# Altium integrated library Analog Devices Data Converters Digital-to-Analog Converters.IntLib: 2231 symbols (part 160 of 181)
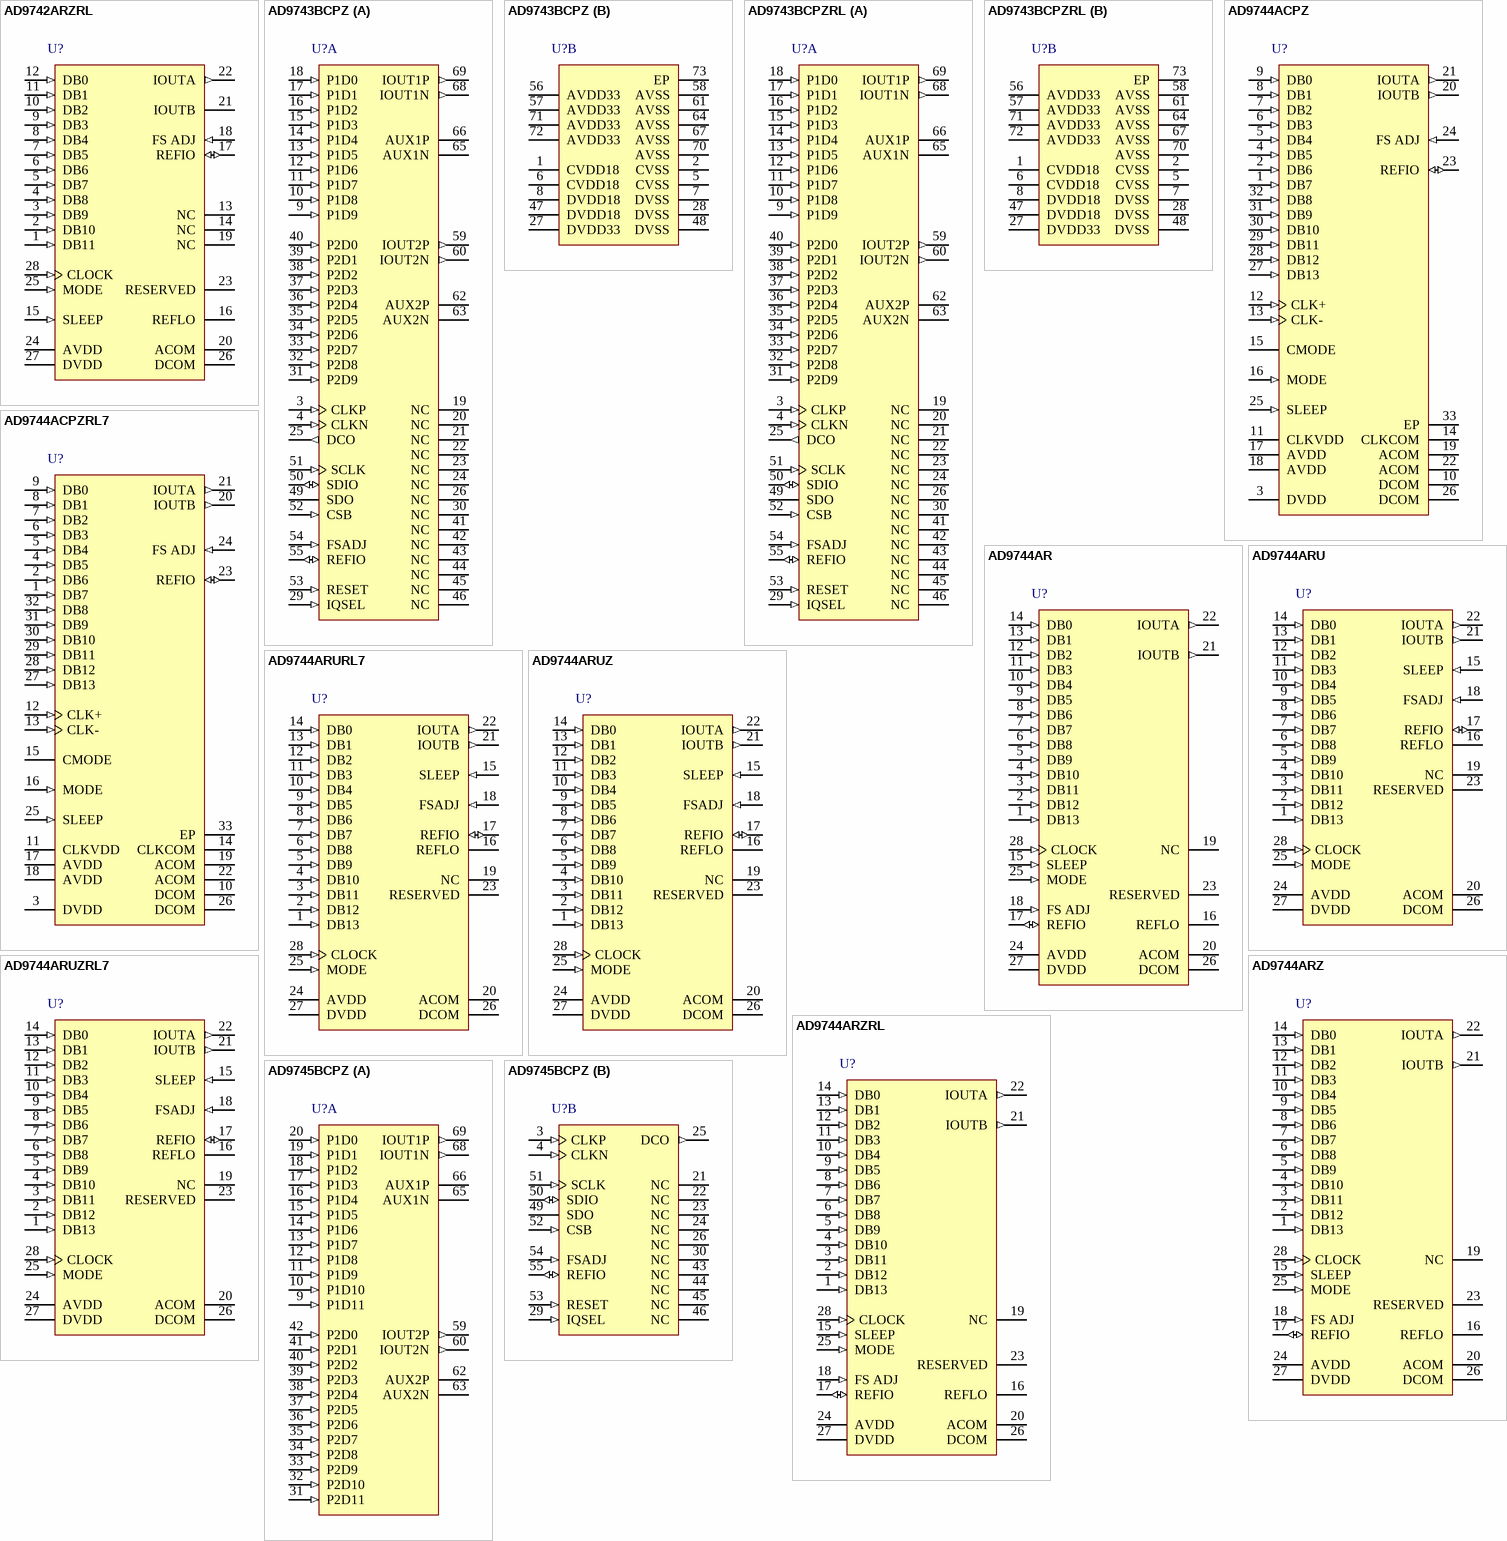
[diagram p273: symbols AD9742ARZRL to AD9745BCPZ]

## AD9744ARUZ
designator U?
Single 14-Bit TxDAC, 210 Msps, -40 to +85 degC, RU-28, Pb-Free, Tube; Generic Part Number: AD9744; Manufacturer: Analog Devices; PartNumber: AD9744ARUZ; # DAC Outputs: 1; Max V+: 3.6V; Op Pwr Diss: 145mW; Resolution (Bits): 14; Settling Time: 11ns; Single Supply: Yes; DatasheetVersion: Rev.B; PackageVersion: 2005; PackageReference: RU-28; PackageDescription: 28-Lead Thin Shrink Small Outline Package [TSSOP]; Supplier 1: Digi-Key; Supplier Part Number 1: AD9744ARUZ-ND; Supplier 2: Farnell; Supplier Part Number 2: 2305701; Supplier 3: Newark; Supplier Part Number 3: 59K7349; Supplier 4: Mouser; Supplier Part Number 4: 584-AD9744ARUZ; Packing: Tube; RoHS: Y; Mounting Technology: Surface Mount; Code_JEDEC: MO-153-AE; ComponentLink1Description: Manufacturer URL; ComponentLink1URL: http://www.analog.com/en/index.html; ComponentLink2Description: Datasheet; ComponentLink2URL: http://www.analog.com/static/imported-files/data_sheets/AD9744.pdf; ComponentLink3Description: Package Specification; ComponentLink3URL: http://www.analog.com/static/imported-files/packages/249854663RU_28.pdf; ComponentLink4Description: Product URL; ComponentLink4URL: http://www.analog.com/en/digital-to-analog-converters/da-converters/ad9744/products/product.html
footprint RU-28_N (TSOP, 28-Leads, Body 9.7x4.4mm, Pitch 0.65mm, IPC Medium Density)
footprint RU-28_L (TSOP, 28-Leads, Body 9.7x4.4mm, Pitch 0.65mm, IPC High Density)
footprint RU-28_M (TSOP, 28-Leads, Body 9.7x4.4mm, Pitch 0.65mm, IPC Low Density)
pins: 1 DB13 (in) "Most Significant Data Bit (MSB).", 2 DB12 (in) "Data Bit 12", 3 DB11 (in) "Data Bit 11", 4 DB10 (in) "Data Bit 10", 5 DB9 (in) "Data Bit 9", 6 DB8 (in) "Data Bit 8", 7 DB7 (in) "Data Bit 7", 8 DB6 (in) "Data Bit 6", 9 DB5 (in) "Data Bit 5", 10 DB4 (in) "Data Bit 4", 11 DB3 (in) "Data Bit 3", 12 DB2 (in) "Data Bit 2", 13 DB1 (in) "Data Bit 1", 14 DB0 (in) "Least Significant Data Bit (LSB).", 15 SLEEP (in) "Power-Down Control Input. Active high. Contains active pull-down circuit; it may be left unterminated if not used.", 16 REFLO "Reference Ground when Internal 1.2 V Reference Used. Connect to ACOM for both internal and external reference operation modes.", 17 REFIO (io) "Reference Input/Output. Serves as reference input when using external reference. Serves as 1.2 V reference output when using internal reference. Requires 0.1 uF capacitor to ACOM when using internal reference.", 18 FSADJ (in) "Full-Scale Current Output Adjust.", 19 NC "No Internal Connection.", 20 ACOM (power) "Analog Common.", 21 IOUTB (out) "Complementary DAC Current Output. Full-scale current when all data bits are 0s.", 22 IOUTA (out) "DAC Current Output. Full-scale current when all data bits are 1s.", 23 RESERVED "Reserved. Do not connect to common or supply.", 24 AVDD (power) "Analog Supply Voltage (3.3 V).", 25 MODE (in) "Selects Input Data Format. Connect to DCOM for straight binary, DVDD for twos complement.", 26 DCOM (power) "Digital Common.", 27 DVDD (power) "Digital Supply Voltage (3.3 V).", 28 CLOCK (in) "Clock Input. Data latched on positive edge of clock."

## AD9744ARUZRL7
designator U?
Single 14-Bit TxDAC, 210 Msps, -40 to +85 degC, RU-28, Pb-Free, Reel; Generic Part Number: AD9744; Manufacturer: Analog Devices; PartNumber: AD9744ARUZRL7; # DAC Outputs: 1; Max V+: 3.6V; Op Pwr Diss: 145mW; Resolution (Bits): 14; Settling Time: 11ns; Single Supply: Yes; DatasheetVersion: Rev.B; PackageVersion: 2005; PackageReference: RU-28; PackageDescription: 28-Lead Thin Shrink Small Outline Package [TSSOP]; Supplier 1: Digi-Key; Supplier Part Number 1: AD9744ARUZRL7TR-ND; Supplier 2: Digi-Key; Supplier Part Number 2: AD9744ARUZRL7CT-ND; Supplier 3: Digi-Key; Supplier Part Number 3: AD9744ARUZRL7DKR-ND; Supplier 4: Newark; Supplier Part Number 4: 59K7350; Supplier 5: Mouser; Supplier Part Number 5: 584-AD9744ARUZR7; Packing: Reel; RoHS: Y; Mounting Technology: Surface Mount; Code_JEDEC: MO-153-AE; ComponentLink1Description: Manufacturer URL; ComponentLink1URL: http://www.analog.com/en/index.html; ComponentLink2Description: Datasheet; ComponentLink2URL: http://www.analog.com/static/imported-files/data_sheets/AD9744.pdf; ComponentLink3Description: Package Specification; ComponentLink3URL: http://www.analog.com/static/imported-files/packages/249854663RU_28.pdf; ComponentLink4Description: Product URL; ComponentLink4URL: http://www.analog.com/en/digital-to-analog-converters/da-converters/ad9744/products/product.html
footprint RU-28_N (TSOP, 28-Leads, Body 9.7x4.4mm, Pitch 0.65mm, IPC Medium Density)
footprint RU-28_L (TSOP, 28-Leads, Body 9.7x4.4mm, Pitch 0.65mm, IPC High Density)
footprint RU-28_M (TSOP, 28-Leads, Body 9.7x4.4mm, Pitch 0.65mm, IPC Low Density)
pins: 1 DB13 (in) "Most Significant Data Bit (MSB).", 2 DB12 (in) "Data Bit 12", 3 DB11 (in) "Data Bit 11", 4 DB10 (in) "Data Bit 10", 5 DB9 (in) "Data Bit 9", 6 DB8 (in) "Data Bit 8", 7 DB7 (in) "Data Bit 7", 8 DB6 (in) "Data Bit 6", 9 DB5 (in) "Data Bit 5", 10 DB4 (in) "Data Bit 4", 11 DB3 (in) "Data Bit 3", 12 DB2 (in) "Data Bit 2", 13 DB1 (in) "Data Bit 1", 14 DB0 (in) "Least Significant Data Bit (LSB).", 15 SLEEP (in) "Power-Down Control Input. Active high. Contains active pull-down circuit; it may be left unterminated if not used.", 16 REFLO "Reference Ground when Internal 1.2 V Reference Used. Connect to ACOM for both internal and external reference operation modes.", 17 REFIO (io) "Reference Input/Output. Serves as reference input when using external reference. Serves as 1.2 V reference output when using internal reference. Requires 0.1 uF capacitor to ACOM when using internal reference.", 18 FSADJ (in) "Full-Scale Current Output Adjust.", 19 NC "No Internal Connection.", 20 ACOM (power) "Analog Common.", 21 IOUTB (out) "Complementary DAC Current Output. Full-scale current when all data bits are 0s.", 22 IOUTA (out) "DAC Current Output. Full-scale current when all data bits are 1s.", 23 RESERVED "Reserved. Do not connect to common or supply.", 24 AVDD (power) "Analog Supply Voltage (3.3 V).", 25 MODE (in) "Selects Input Data Format. Connect to DCOM for straight binary, DVDD for twos complement.", 26 DCOM (power) "Digital Common.", 27 DVDD (power) "Digital Supply Voltage (3.3 V).", 28 CLOCK (in) "Clock Input. Data latched on positive edge of clock."

## AD9744ARZ
designator U?
Single 14-Bit TxDAC, 210 Msps, -40 to +85 degC, RW-28, Pb-Free, Tube; Generic Part Number: AD9744; Manufacturer: Analog Devices; PartNumber: AD9744ARZ; # DAC Outputs: 1; Max V+: 3.6V; Op Pwr Diss: 145mW; Resolution (Bits): 14; Settling Time: 11ns; Single Supply: Yes; DatasheetVersion: Rev.B; PackageVersion: 060706-A; PackageReference: RW-28; PackageDescription: 28-Lead Standard Small Outline Package [SOIC_W]; Supplier 1: Digi-Key; Supplier Part Number 1: AD9744ARZ-ND; Supplier 2: Farnell; Supplier Part Number 2: 2312816; Supplier 3: Newark; Supplier Part Number 3: 59K7351; Supplier 4: Mouser; Supplier Part Number 4: 584-AD9744ARZ; Packing: Tube; RoHS: Y; Mounting Technology: Surface Mount; Code_JEDEC: MS-013-AE; ComponentLink1Description: Manufacturer URL; ComponentLink1URL: http://www.analog.com/en/index.html; ComponentLink2Description: Datasheet; ComponentLink2URL: http://www.analog.com/static/imported-files/data_sheets/AD9744.pdf; ComponentLink3Description: Product URL; ComponentLink3URL: http://www.analog.com/en/digital-to-analog-converters/da-converters/ad9744/products/product.html
footprint RW-28_N (SOIC, 28-Leads, Body 17.9x7.5mm, Pitch 1.27mm, IPC Medium Density)
footprint RW-28_L (SOIC, 28-Leads, Body 17.9x7.5mm, Pitch 1.27mm, IPC High Density)
footprint RW-28_M (SOIC, 28-Leads, Body 17.9x7.5mm, Pitch 1.27mm, IPC Low Density)
pins: 1 DB13 (in) "Most Significant Data Bit (MSB).", 2 DB12 (in) "Data Bit 12", 3 DB11 (in) "Data Bit 11", 4 DB10 (in) "Data Bit 10", 5 DB9 (in) "Data Bit 9", 6 DB8 (in) "Data Bit 8", 7 DB7 (in) "Data Bit 7", 8 DB6 (in) "Data Bit 6", 9 DB5 (in) "Data Bit 5", 10 DB4 (in) "Data Bit 4", 11 DB3 (in) "Data Bit 3", 12 DB2 (in) "Data Bit 2", 13 DB1 (in) "Data Bit 1", 14 DB0 (in) "Least Significant Data Bit (LSB).", 15 SLEEP (in) "Power-Down Control Input. Active high. Contains active pull-down circuit; it may be left unterminated if not used.", 16 REFLO "Reference Ground when Internal 1.2 V Reference Used. Connect to ACOM for both internal and external reference operation modes.", 17 REFIO (io) "Reference Input/Output. Serves as reference input when using external reference. Serves as 1.2 V reference output when using internal reference. Requires 0.1 uF capacitor to ACOM when using internal reference.", 18 FS ADJ (in) "Full-Scale Current Output Adjust.", 19 NC "No Internal Connection.", 20 ACOM (power) "Analog Common.", 21 IOUTB (out) "Complementary DAC Current Output. Full-scale current when all data bits are 0s.", 22 IOUTA (out) "DAC Current Output. Full-scale current when all data bits are 1s.", 23 RESERVED "Reserved. Do not connect to common or supply.", 24 AVDD (power) "Analog Supply Voltage (3.3 V).", 25 MODE (in) "Selects Input Data Format. Connect to DCOM for straight binary, DVDD for twos complement.", 26 DCOM (power) "Digital Common.", 27 DVDD (power) "Digital Supply Voltage (3.3 V).", 28 CLOCK (in) "Clock Input. Data latched on positive edge of clock."

## AD9744ARZRL
designator U?
Single 14-Bit TxDAC, 210 Msps, -40 to +85 degC, RW-28, Pb-Free, Reel; Generic Part Number: AD9744; Manufacturer: Analog Devices; PartNumber: AD9744ARZRL; # DAC Outputs: 1; Max V+: 3.6V; Op Pwr Diss: 145mW; Resolution (Bits): 14; Settling Time: 11ns; Single Supply: Yes; DatasheetVersion: Rev.B; PackageVersion: 060706-A; PackageReference: RW-28; PackageDescription: 28-Lead Standard Small Outline Package [SOIC_W]; Supplier 1: Digi-Key; Supplier Part Number 1: AD9744ARZRL-ND; Supplier 2: Mouser; Supplier Part Number 2: 584-AD9744ARZR; Packing: Reel; RoHS: Y; Mounting Technology: Surface Mount; Code_JEDEC: MS-013-AE; ComponentLink1Description: Manufacturer URL; ComponentLink1URL: http://www.analog.com/en/index.html; ComponentLink2Description: Datasheet; ComponentLink2URL: http://www.analog.com/static/imported-files/data_sheets/AD9744.pdf; ComponentLink3Description: Product URL; ComponentLink3URL: http://www.analog.com/en/digital-to-analog-converters/da-converters/ad9744/products/product.html
footprint RW-28_N (SOIC, 28-Leads, Body 17.9x7.5mm, Pitch 1.27mm, IPC Medium Density)
footprint RW-28_L (SOIC, 28-Leads, Body 17.9x7.5mm, Pitch 1.27mm, IPC High Density)
footprint RW-28_M (SOIC, 28-Leads, Body 17.9x7.5mm, Pitch 1.27mm, IPC Low Density)
pins: 1 DB13 (in) "Most Significant Data Bit (MSB).", 2 DB12 (in) "Data Bit 12", 3 DB11 (in) "Data Bit 11", 4 DB10 (in) "Data Bit 10", 5 DB9 (in) "Data Bit 9", 6 DB8 (in) "Data Bit 8", 7 DB7 (in) "Data Bit 7", 8 DB6 (in) "Data Bit 6", 9 DB5 (in) "Data Bit 5", 10 DB4 (in) "Data Bit 4", 11 DB3 (in) "Data Bit 3", 12 DB2 (in) "Data Bit 2", 13 DB1 (in) "Data Bit 1", 14 DB0 (in) "Least Significant Data Bit (LSB).", 15 SLEEP (in) "Power-Down Control Input. Active high. Contains active pull-down circuit; it may be left unterminated if not used.", 16 REFLO "Reference Ground when Internal 1.2 V Reference Used. Connect to ACOM for both internal and external reference operation modes.", 17 REFIO (io) "Reference Input/Output. Serves as reference input when using external reference. Serves as 1.2 V reference output when using internal reference. Requires 0.1 uF capacitor to ACOM when using internal reference.", 18 FS ADJ (in) "Full-Scale Current Output Adjust.", 19 NC "No Internal Connection.", 20 ACOM (power) "Analog Common.", 21 IOUTB (out) "Complementary DAC Current Output. Full-scale current when all data bits are 0s.", 22 IOUTA (out) "DAC Current Output. Full-scale current when all data bits are 1s.", 23 RESERVED "Reserved. Do not connect to common or supply.", 24 AVDD (power) "Analog Supply Voltage (3.3 V).", 25 MODE (in) "Selects Input Data Format. Connect to DCOM for straight binary, DVDD for twos complement.", 26 DCOM (power) "Digital Common.", 27 DVDD (power) "Digital Supply Voltage (3.3 V).", 28 CLOCK (in) "Clock Input. Data latched on positive edge of clock."

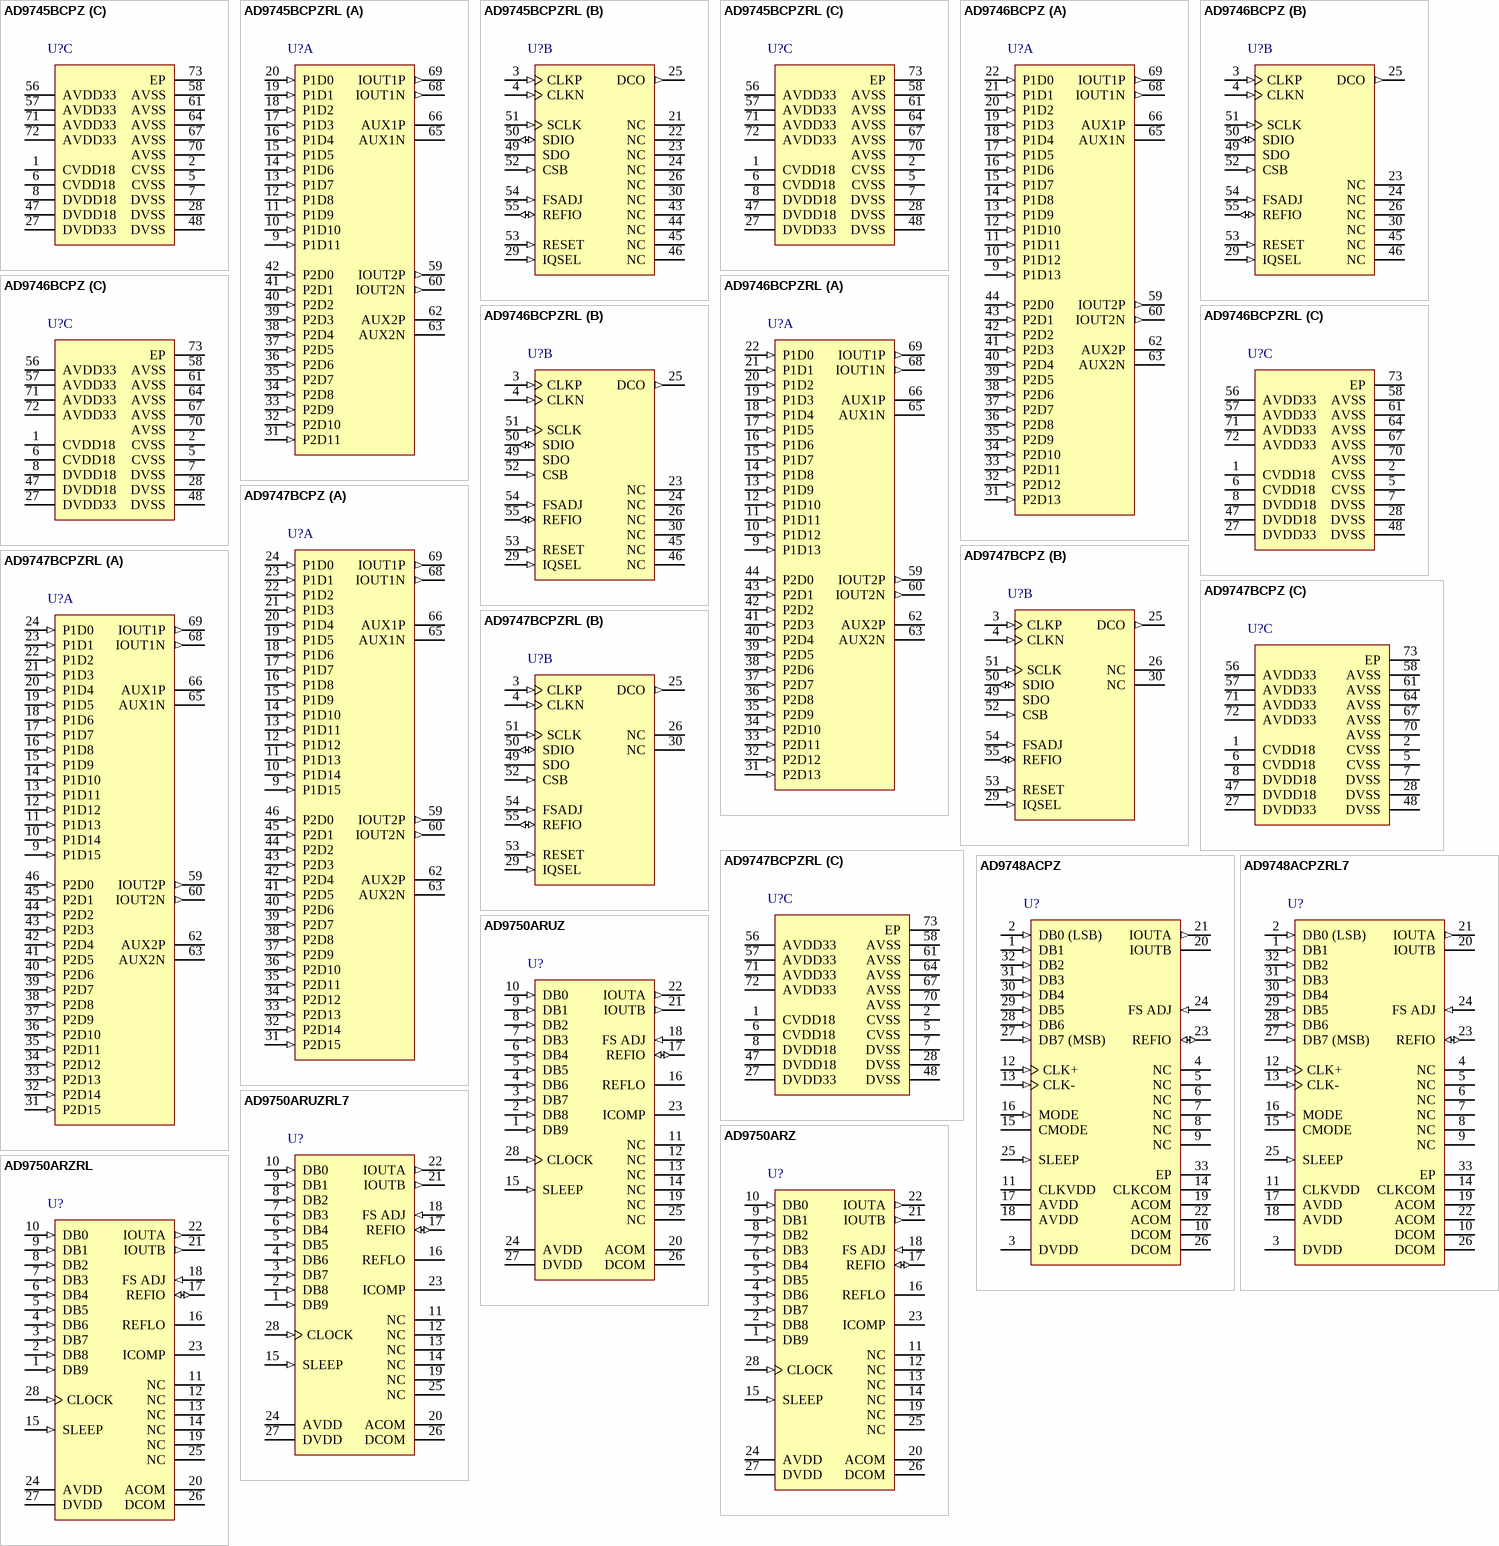
[diagram p96: symbols AD9745BCPZ to AD9750ARZRL]

## AD9745BCPZ
designator U?
Dual 12-Bit Digital-to-Analog Converter, 250 Msps, -40 to +85 degC, CP-72-1, Pb-Free, Tray; Generic Part Number: AD9745; Manufacturer: Analog Devices; PartNumber: AD9745BCPZ; # DAC Outputs: 2; Max V+: 3.47V; Op Pwr Diss: 350mW; Resolution (Bits): 12; Single Supply: No; DatasheetVersion: Rev.0; PackageVersion: 06-07-2012-A; PackageReference: CP-72-1; PackageDescription: 72-Lead Lead Frame Chip Scale Package [LFCSP_VQ] 10 x 10 mm Body, Very Thin Quad; Supplier 1: Digi-Key; Supplier Part Number 1: AD9745BCPZ-ND; Supplier 2: Farnell; Supplier Part Number 2: 1438933; Supplier 3: Newark; Supplier Part Number 3: 46M5299; Supplier 4: Mouser; Supplier Part Number 4: 584-AD9745BCPZ; Packing: Tray; RoHS: Y; Mounting Technology: Surface Mount; Code_JEDEC: MO-220-VNND-4; ComponentLink1Description: Manufacturer URL; ComponentLink1URL: http://www.analog.com/en/index.html; ComponentLink2Description: Datasheet; ComponentLink2URL: http://www.analog.com/static/imported-files/data_sheets/AD9741_9743_9745_9746_9747.pdf; ComponentLink3Description: Package Specification; ComponentLink3URL: http://www.analog.com/static/imported-files/packages/CP_72_1.pdf; ComponentLink4Description: Product URL; ComponentLink4URL: http://www.analog.com/en/digital-to-analog-converters/da-converters/ad9745/products/product.html
footprint CP-72-1_N (QFN, 72-Leads, Body 10x10mm, Pitch 0.5mm, Thermal Pad 4.7x4.7mm, IPC Medium Density)
footprint CP-72-1_L (QFN, 72-Leads, Body 10x10mm, Pitch 0.5mm, Thermal Pad 4.7x4.7mm, IPC High Density)
footprint CP-72-1_M (QFN, 72-Leads, Body 10x10mm, Pitch 0.5mm, Thermal Pad 4.7x4.7mm, IPC Low Density)
part A pins: 9 P1D11 (in) "Port 1 Data Bit Input.", 10 P1D10 (in) "Port 1 Data Bit Input.", 11 P1D9 (in) "Port 1 Data Bit Input.", 12 P1D8 (in) "Port 1 Data Bit Input.", 13 P1D7 (in) "Port 1 Data Bit Input.", 14 P1D6 (in) "Port 1 Data Bit Input.", 15 P1D5 (in) "Port 1 Data Bit Input.", 16 P1D4 (in) "Port 1 Data Bit Input.", 17 P1D3 (in) "Port 1 Data Bit Input.", 18 P1D2 (in) "Port 1 Data Bit Input.", 19 P1D1 (in) "Port 1 Data Bit Input.", 20 P1D0 (in) "Port 1 Data Bit Input.", 31 P2D11 (in) "Port 2 Data Bit Input.", 32 P2D10 (in) "Port 2 Data Bit Input.", 33 P2D9 (in) "Port 2 Data Bit Input.", 34 P2D8 (in) "Port 2 Data Bit Input.", 35 P2D7 (in) "Port 2 Data Bit Input.", 36 P2D6 (in) "Port 2 Data Bit Input.", 37 P2D5 (in) "Port 2 Data Bit Input.", 38 P2D4 (in) "Port 2 Data Bit Input.", 39 P2D3 (in) "Port 2 Data Bit Input.", 40 P2D2 (in) "Port 2 Data Bit Input.", 41 P2D1 (in) "Port 2 Data Bit Input.", 42 P2D0 (in) "Port 2 Data Bit Input.", 59 IOUT2P (out) "DAC2 Current Output. Sources full-scale current when input data bits are all 1.", 60 IOUT2N (out) "Complementary DAC2 Current Output. Sources full-scale current when data bits are all 0.", 62 AUX2P (hiz) "Auxiliary DAC2 Default Current Output Pin.", 63 AUX2N (hiz) "Auxiliary DAC2 Optional Output Pin. Enable through SPI.", 65 AUX1N (hiz) "Auxiliary DAC1 Optional Output Pin. Enable through SPI.", 66 AUX1P (hiz) "Auxiliary DAC1 Default Current Output Pin.", 68 IOUT1N (out) "Complementary DAC1 Current Output. Sources full-scale current when data bits are all 0.", 69 IOUT1P (out) "DAC1 Current Output. Sources full-scale current when data bits are all 1."
part B pins: 3 CLKP (in) "Differential DAC Clock Input.", 4 CLKN (in) "Complementary Differential DAC Clock Input.", 21 NC "No Connect.", 22 NC "No Connect.", 23 NC "No Connect.", 24 NC "No Connect.", 25 DCO (out) "Data Clock Output. Use to clock data source.", 26 NC "No Connect.", 29 IQSEL (in) "I/Q Framing Signal for Single-Port Mode Operation.", 30 NC "No Connect.", 43 NC "No Connect.", 44 NC "No Connect.", 45 NC "No Connect.", 46 NC "No Connect.", 49 SDO (hiz) "Serial Peripheral Interface Data Output.", 50 SDIO (io) "Serial Peripheral Interface Data Input and Optional Data Output.", 51 SCLK (in) "Serial Peripheral Interface Clock Input.", 52 CSB (in) "Serial Peripheral Interface Chip Select Input. Active low.", 53 RESET (in) "Hardware Reset. Active high.", 54 FSADJ (in) "Full-Scale Current Output Adjust. Connect a 10 kohm resistor to AVSS.", 55 REFIO (io) "Reference Input/Output. Connect a 0.1 uF capacitor to AVSS."
part C pins: 1 CVDD18 (power) "Clock Supply Voltage (1.8 V).", 2 CVSS (power) "Clock Supply Common (0 V).", 5 CVSS (power) "Clock Supply Common (0 V).", 6 CVDD18 (power) "Clock Supply Voltage (1.8 V).", 7 DVSS (power) "Digital Supply Common (0 V).", 8 DVDD18 (power) "Digital Core Supply Voltage (1.8 V).", 27 DVDD33 (power) "Digital I/O Supply Voltage (3.3 V).", 28 DVSS (power) "Digital Supply Common (0 V).", 47 DVDD18 (power) "Digital Core Supply Voltage (1.8 V).", 48 DVSS (power) "Digital Supply Common (0 V).", 56 AVDD33 (power) "Analog Supply Voltage (3.3 V).", 57 AVDD33 (power) "Analog Supply Voltage (3.3 V).", 58 AVSS (power) "Analog Supply Common (0 V).", 61 AVSS (power) "Analog Supply Common (0 V).", 64 AVSS (power) "Analog Supply Common (0 V).", 67 AVSS (power) "Analog Supply Common (0 V).", 70 AVSS (power) "Analog Supply Common (0 V).", 71 AVDD33 (power) "Analog Supply Voltage (3.3 V).", 72 AVDD33 (power) "Analog Supply Voltage (3.3 V).", 73 EP (power) "Exposed Thermal Pad. Must be soldered to copper pour on top surface of PCB for mechanical stability and must be electrically tied to low impedance GND plane for low noise performance."

## AD9745BCPZRL
designator U?
Dual 12-Bit Digital-to-Analog Converter, 250 Msps, -40 to +85 degC, CP-72-1, Pb-Free, Reel; Generic Part Number: AD9745; Manufacturer: Analog Devices; PartNumber: AD9745BCPZRL; # DAC Outputs: 2; Max V+: 3.47V; Op Pwr Diss: 350mW; Resolution (Bits): 12; Single Supply: No; DatasheetVersion: Rev.0; PackageVersion: 06-07-2012-A; PackageReference: CP-72-1; PackageDescription: 72-Lead Lead Frame Chip Scale Package [LFCSP_VQ] 10 x 10 mm Body, Very Thin Quad; Supplier 1: Digi-Key; Supplier Part Number 1: AD9745BCPZRL-ND; Supplier 2: Mouser; Supplier Part Number 2: 584-AD9745BCPZR; Packing: Reel; RoHS: Y; Mounting Technology: Surface Mount; Code_JEDEC: MO-220-VNND-4; ComponentLink1Description: Manufacturer URL; ComponentLink1URL: http://www.analog.com/en/index.html; ComponentLink2Description: Datasheet; ComponentLink2URL: http://www.analog.com/static/imported-files/data_sheets/AD9741_9743_9745_9746_9747.pdf; ComponentLink3Description: Package Specification; ComponentLink3URL: http://www.analog.com/static/imported-files/packages/CP_72_1.pdf; ComponentLink4Description: Product URL; ComponentLink4URL: http://www.analog.com/en/digital-to-analog-converters/da-converters/ad9745/products/product.html
footprint CP-72-1_N (QFN, 72-Leads, Body 10x10mm, Pitch 0.5mm, Thermal Pad 4.7x4.7mm, IPC Medium Density)
footprint CP-72-1_L (QFN, 72-Leads, Body 10x10mm, Pitch 0.5mm, Thermal Pad 4.7x4.7mm, IPC High Density)
footprint CP-72-1_M (QFN, 72-Leads, Body 10x10mm, Pitch 0.5mm, Thermal Pad 4.7x4.7mm, IPC Low Density)
part A pins: 9 P1D11 (in) "Port 1 Data Bit Input.", 10 P1D10 (in) "Port 1 Data Bit Input.", 11 P1D9 (in) "Port 1 Data Bit Input.", 12 P1D8 (in) "Port 1 Data Bit Input.", 13 P1D7 (in) "Port 1 Data Bit Input.", 14 P1D6 (in) "Port 1 Data Bit Input.", 15 P1D5 (in) "Port 1 Data Bit Input.", 16 P1D4 (in) "Port 1 Data Bit Input.", 17 P1D3 (in) "Port 1 Data Bit Input.", 18 P1D2 (in) "Port 1 Data Bit Input.", 19 P1D1 (in) "Port 1 Data Bit Input.", 20 P1D0 (in) "Port 1 Data Bit Input.", 31 P2D11 (in) "Port 2 Data Bit Input.", 32 P2D10 (in) "Port 2 Data Bit Input.", 33 P2D9 (in) "Port 2 Data Bit Input.", 34 P2D8 (in) "Port 2 Data Bit Input.", 35 P2D7 (in) "Port 2 Data Bit Input.", 36 P2D6 (in) "Port 2 Data Bit Input.", 37 P2D5 (in) "Port 2 Data Bit Input.", 38 P2D4 (in) "Port 2 Data Bit Input.", 39 P2D3 (in) "Port 2 Data Bit Input.", 40 P2D2 (in) "Port 2 Data Bit Input.", 41 P2D1 (in) "Port 2 Data Bit Input.", 42 P2D0 (in) "Port 2 Data Bit Input.", 59 IOUT2P (out) "DAC2 Current Output. Sources full-scale current when input data bits are all 1.", 60 IOUT2N (out) "Complementary DAC2 Current Output. Sources full-scale current when data bits are all 0.", 62 AUX2P (hiz) "Auxiliary DAC2 Default Current Output Pin.", 63 AUX2N (hiz) "Auxiliary DAC2 Optional Output Pin. Enable through SPI.", 65 AUX1N (hiz) "Auxiliary DAC1 Optional Output Pin. Enable through SPI.", 66 AUX1P (hiz) "Auxiliary DAC1 Default Current Output Pin.", 68 IOUT1N (out) "Complementary DAC1 Current Output. Sources full-scale current when data bits are all 0.", 69 IOUT1P (out) "DAC1 Current Output. Sources full-scale current when data bits are all 1."
part B pins: 3 CLKP (in) "Differential DAC Clock Input.", 4 CLKN (in) "Complementary Differential DAC Clock Input.", 21 NC "No Connect.", 22 NC "No Connect.", 23 NC "No Connect.", 24 NC "No Connect.", 25 DCO (out) "Data Clock Output. Use to clock data source.", 26 NC "No Connect.", 29 IQSEL (in) "I/Q Framing Signal for Single-Port Mode Operation.", 30 NC "No Connect.", 43 NC "No Connect.", 44 NC "No Connect.", 45 NC "No Connect.", 46 NC "No Connect.", 49 SDO (hiz) "Serial Peripheral Interface Data Output.", 50 SDIO (io) "Serial Peripheral Interface Data Input and Optional Data Output.", 51 SCLK (in) "Serial Peripheral Interface Clock Input.", 52 CSB (in) "Serial Peripheral Interface Chip Select Input. Active low.", 53 RESET (in) "Hardware Reset. Active high.", 54 FSADJ (in) "Full-Scale Current Output Adjust. Connect a 10 kohm resistor to AVSS.", 55 REFIO (io) "Reference Input/Output. Connect a 0.1 uF capacitor to AVSS."
part C pins: 1 CVDD18 (power) "Clock Supply Voltage (1.8 V).", 2 CVSS (power) "Clock Supply Common (0 V).", 5 CVSS (power) "Clock Supply Common (0 V).", 6 CVDD18 (power) "Clock Supply Voltage (1.8 V).", 7 DVSS (power) "Digital Supply Common (0 V).", 8 DVDD18 (power) "Digital Core Supply Voltage (1.8 V).", 27 DVDD33 (power) "Digital I/O Supply Voltage (3.3 V).", 28 DVSS (power) "Digital Supply Common (0 V).", 47 DVDD18 (power) "Digital Core Supply Voltage (1.8 V).", 48 DVSS (power) "Digital Supply Common (0 V).", 56 AVDD33 (power) "Analog Supply Voltage (3.3 V).", 57 AVDD33 (power) "Analog Supply Voltage (3.3 V).", 58 AVSS (power) "Analog Supply Common (0 V).", 61 AVSS (power) "Analog Supply Common (0 V).", 64 AVSS (power) "Analog Supply Common (0 V).", 67 AVSS (power) "Analog Supply Common (0 V).", 70 AVSS (power) "Analog Supply Common (0 V).", 71 AVDD33 (power) "Analog Supply Voltage (3.3 V).", 72 AVDD33 (power) "Analog Supply Voltage (3.3 V).", 73 EP (power) "Exposed Thermal Pad. Must be soldered to copper pour on top surface of PCB for mechanical stability and must be electrically tied to low impedance GND plane for low noise performance."

## AD9746BCPZ
designator U?
Dual 14-Bit Digital-to-Analog Converter, 250 Msps, -40 to +85 degC, CP-72-1, Pb-Free, Tray; Generic Part Number: AD9746; Manufacturer: Analog Devices; PartNumber: AD9746BCPZ; # DAC Outputs: 2; Max V+: 3.47V; Op Pwr Diss: 355mW; Resolution (Bits): 14; Single Supply: No; DatasheetVersion: Rev.0; PackageVersion: 06-07-2012-A; PackageReference: CP-72-1; PackageDescription: 72-Lead Lead Frame Chip Scale Package [LFCSP_VQ] 10 x 10 mm Body, Very Thin Quad; Supplier 1: Digi-Key; Supplier Part Number 1: AD9746BCPZ-ND; Supplier 2: Newark; Supplier Part Number 2: 46M5302; Supplier 3: Mouser; Supplier Part Number 3: 584-AD9746BCPZ; Packing: Tray; RoHS: Y; Mounting Technology: Surface Mount; Code_JEDEC: MO-220-VNND-4; ComponentLink1Description: Manufacturer URL; ComponentLink1URL: http://www.analog.com/en/index.html; ComponentLink2Description: Datasheet; ComponentLink2URL: http://www.analog.com/static/imported-files/data_sheets/AD9741_9743_9745_9746_9747.pdf; ComponentLink3Description: Package Specification; ComponentLink3URL: http://www.analog.com/static/imported-files/packages/CP_72_1.pdf; ComponentLink4Description: Product URL; ComponentLink4URL: http://www.analog.com/en/digital-to-analog-converters/da-converters/ad9746/products/product.html
footprint CP-72-1_N (QFN, 72-Leads, Body 10x10mm, Pitch 0.5mm, Thermal Pad 4.7x4.7mm, IPC Medium Density)
footprint CP-72-1_L (QFN, 72-Leads, Body 10x10mm, Pitch 0.5mm, Thermal Pad 4.7x4.7mm, IPC High Density)
footprint CP-72-1_M (QFN, 72-Leads, Body 10x10mm, Pitch 0.5mm, Thermal Pad 4.7x4.7mm, IPC Low Density)
part A pins: 9 P1D13 (in) "Port 1 Data Bit Input.", 10 P1D12 (in) "Port 1 Data Bit Input.", 11 P1D11 (in) "Port 1 Data Bit Input.", 12 P1D10 (in) "Port 1 Data Bit Input.", 13 P1D9 (in) "Port 1 Data Bit Input.", 14 P1D8 (in) "Port 1 Data Bit Input.", 15 P1D7 (in) "Port 1 Data Bit Input.", 16 P1D6 (in) "Port 1 Data Bit Input.", 17 P1D5 (in) "Port 1 Data Bit Input.", 18 P1D4 (in) "Port 1 Data Bit Input.", 19 P1D3 (in) "Port 1 Data Bit Input.", 20 P1D2 (in) "Port 1 Data Bit Input.", 21 P1D1 (in) "Port 1 Data Bit Input.", 22 P1D0 (in) "Port 1 Data Bit Input.", 31 P2D13 (in) "Port 2 Data Bit Input.", 32 P2D12 (in) "Port 2 Data Bit Input.", 33 P2D11 (in) "Port 2 Data Bit Input.", 34 P2D10 (in) "Port 2 Data Bit Input.", 35 P2D9 (in) "Port 2 Data Bit Input.", 36 P2D8 (in) "Port 2 Data Bit Input.", 37 P2D7 (in) "Port 2 Data Bit Input.", 38 P2D6 (in) "Port 2 Data Bit Input.", 39 P2D5 (in) "Port 2 Data Bit Input.", 40 P2D4 (in) "Port 2 Data Bit Input.", 41 P2D3 (in) "Port 2 Data Bit Input.", 42 P2D2 (in) "Port 2 Data Bit Input.", 43 P2D1 (in) "Port 2 Data Bit Input.", 44 P2D0 (in) "Port 2 Data Bit Input.", 59 IOUT2P (out) "DAC2 Current Output. Sources full-scale current when input data bits are all 1.", 60 IOUT2N (out) "Complementary DAC2 Current Output. Sources full-scale current when data bits are all 0.", 62 AUX2P (hiz) "Auxiliary DAC2 Default Current Output Pin.", 63 AUX2N (hiz) "Auxiliary DAC2 Optional Output Pin. Enable through SPI.", 65 AUX1N (hiz) "Auxiliary DAC1 Optional Output Pin. Enable through SPI.", 66 AUX1P (hiz) "Auxiliary DAC1 Default Current Output Pin.", 68 IOUT1N (out) "Complementary DAC1 Current Output. Sources full-scale current when data bits are all 0.", 69 IOUT1P (out) "DAC1 Current Output. Sources full-scale current when data bits are all 1."
part B pins: 3 CLKP (in) "Differential DAC Clock Input.", 4 CLKN (in) "Complementary Differential DAC Clock Input.", 23 NC "No Connect.", 24 NC "No Connect.", 25 DCO (out) "Data Clock Output. Use to clock data source.", 26 NC "No Connect.", 29 IQSEL (in) "I/Q Framing Signal for Single-Port Mode Operation.", 30 NC "No Connect.", 45 NC "No Connect.", 46 NC "No Connect.", 49 SDO (hiz) "Serial Peripheral Interface Data Output.", 50 SDIO (io) "Serial Peripheral Interface Data Input and Optional Data Output.", 51 SCLK (in) "Serial Peripheral Interface Clock Input.", 52 CSB (in) "Serial Peripheral Interface Chip Select Input. Active low.", 53 RESET (in) "Hardware Reset. Active high.", 54 FSADJ (in) "Full-Scale Current Output Adjust. Connect a 10 kohm resistor to AVSS.", 55 REFIO (io) "Reference Input/Output. Connect a 0.1 uF capacitor to AVSS."
part C pins: 1 CVDD18 (power) "Clock Supply Voltage (1.8 V).", 2 CVSS (power) "Clock Supply Common (0 V).", 5 CVSS (power) "Clock Supply Common (0 V).", 6 CVDD18 (power) "Clock Supply Voltage (1.8 V).", 7 DVSS (power) "Digital Supply Common (0 V).", 8 DVDD18 (power) "Digital Core Supply Voltage (1.8 V).", 27 DVDD33 (power) "Digital I/O Supply Voltage (3.3 V).", 28 DVSS (power) "Digital Supply Common (0 V).", 47 DVDD18 (power) "Digital Core Supply Voltage (1.8 V).", 48 DVSS (power) "Digital Supply Common (0 V).", 56 AVDD33 (power) "Analog Supply Voltage (3.3 V).", 57 AVDD33 (power) "Analog Supply Voltage (3.3 V).", 58 AVSS (power) "Analog Supply Common (0 V).", 61 AVSS (power) "Analog Supply Common (0 V).", 64 AVSS (power) "Analog Supply Common (0 V).", 67 AVSS (power) "Analog Supply Common (0 V).", 70 AVSS (power) "Analog Supply Common (0 V).", 71 AVDD33 (power) "Analog Supply Voltage (3.3 V).", 72 AVDD33 (power) "Analog Supply Voltage (3.3 V).", 73 EP (power) "Exposed Thermal Pad. Must be soldered to copper pour on top surface of PCB for mechanical stability and must be electrically tied to low impedance GND plane for low noise performance."

## AD9746BCPZRL
designator U?
Dual 14-Bit Digital-to-Analog Converter, 250 Msps, -40 to +85 degC, CP-72-1, Pb-Free, Reel; Generic Part Number: AD9746; Manufacturer: Analog Devices; PartNumber: AD9746BCPZRL; # DAC Outputs: 2; Max V+: 3.47V; Op Pwr Diss: 355mW; Resolution (Bits): 14; Single Supply: No; DatasheetVersion: Rev.0; PackageVersion: 06-07-2012-A; PackageReference: CP-72-1; PackageDescription: 72-Lead Lead Frame Chip Scale Package [LFCSP_VQ] 10 x 10 mm Body, Very Thin Quad; Supplier 1: Digi-Key; Supplier Part Number 1: AD9746BCPZRL-ND; Supplier 2: Mouser; Supplier Part Number 2: 584-AD9746BCPZR; Packing: Reel; RoHS: Y; Mounting Technology: Surface Mount; Code_JEDEC: MO-220-VNND-4; ComponentLink1Description: Manufacturer URL; ComponentLink1URL: http://www.analog.com/en/index.html; ComponentLink2Description: Datasheet; ComponentLink2URL: http://www.analog.com/static/imported-files/data_sheets/AD9741_9743_9745_9746_9747.pdf; ComponentLink3Description: Package Specification; ComponentLink3URL: http://www.analog.com/static/imported-files/packages/CP_72_1.pdf; ComponentLink4Description: Product URL; ComponentLink4URL: http://www.analog.com/en/digital-to-analog-converters/da-converters/ad9746/products/product.html
footprint CP-72-1_N (QFN, 72-Leads, Body 10x10mm, Pitch 0.5mm, Thermal Pad 4.7x4.7mm, IPC Medium Density)
footprint CP-72-1_L (QFN, 72-Leads, Body 10x10mm, Pitch 0.5mm, Thermal Pad 4.7x4.7mm, IPC High Density)
footprint CP-72-1_M (QFN, 72-Leads, Body 10x10mm, Pitch 0.5mm, Thermal Pad 4.7x4.7mm, IPC Low Density)
part A pins: 9 P1D13 (in) "Port 1 Data Bit Input.", 10 P1D12 (in) "Port 1 Data Bit Input.", 11 P1D11 (in) "Port 1 Data Bit Input.", 12 P1D10 (in) "Port 1 Data Bit Input.", 13 P1D9 (in) "Port 1 Data Bit Input.", 14 P1D8 (in) "Port 1 Data Bit Input.", 15 P1D7 (in) "Port 1 Data Bit Input.", 16 P1D6 (in) "Port 1 Data Bit Input.", 17 P1D5 (in) "Port 1 Data Bit Input.", 18 P1D4 (in) "Port 1 Data Bit Input.", 19 P1D3 (in) "Port 1 Data Bit Input.", 20 P1D2 (in) "Port 1 Data Bit Input.", 21 P1D1 (in) "Port 1 Data Bit Input.", 22 P1D0 (in) "Port 1 Data Bit Input.", 31 P2D13 (in) "Port 2 Data Bit Input.", 32 P2D12 (in) "Port 2 Data Bit Input.", 33 P2D11 (in) "Port 2 Data Bit Input.", 34 P2D10 (in) "Port 2 Data Bit Input.", 35 P2D9 (in) "Port 2 Data Bit Input.", 36 P2D8 (in) "Port 2 Data Bit Input.", 37 P2D7 (in) "Port 2 Data Bit Input.", 38 P2D6 (in) "Port 2 Data Bit Input.", 39 P2D5 (in) "Port 2 Data Bit Input.", 40 P2D4 (in) "Port 2 Data Bit Input.", 41 P2D3 (in) "Port 2 Data Bit Input.", 42 P2D2 (in) "Port 2 Data Bit Input.", 43 P2D1 (in) "Port 2 Data Bit Input.", 44 P2D0 (in) "Port 2 Data Bit Input.", 59 IOUT2P (out) "DAC2 Current Output. Sources full-scale current when input data bits are all 1.", 60 IOUT2N (out) "Complementary DAC2 Current Output. Sources full-scale current when data bits are all 0.", 62 AUX2P (hiz) "Auxiliary DAC2 Default Current Output Pin.", 63 AUX2N (hiz) "Auxiliary DAC2 Optional Output Pin. Enable through SPI.", 65 AUX1N (hiz) "Auxiliary DAC1 Optional Output Pin. Enable through SPI.", 66 AUX1P (hiz) "Auxiliary DAC1 Default Current Output Pin.", 68 IOUT1N (out) "Complementary DAC1 Current Output. Sources full-scale current when data bits are all 0.", 69 IOUT1P (out) "DAC1 Current Output. Sources full-scale current when data bits are all 1."
part B pins: 3 CLKP (in) "Differential DAC Clock Input.", 4 CLKN (in) "Complementary Differential DAC Clock Input.", 23 NC "No Connect.", 24 NC "No Connect.", 25 DCO (out) "Data Clock Output. Use to clock data source.", 26 NC "No Connect.", 29 IQSEL (in) "I/Q Framing Signal for Single-Port Mode Operation.", 30 NC "No Connect.", 45 NC "No Connect.", 46 NC "No Connect.", 49 SDO (hiz) "Serial Peripheral Interface Data Output.", 50 SDIO (io) "Serial Peripheral Interface Data Input and Optional Data Output.", 51 SCLK (in) "Serial Peripheral Interface Clock Input.", 52 CSB (in) "Serial Peripheral Interface Chip Select Input. Active low.", 53 RESET (in) "Hardware Reset. Active high.", 54 FSADJ (in) "Full-Scale Current Output Adjust. Connect a 10 kohm resistor to AVSS.", 55 REFIO (io) "Reference Input/Output. Connect a 0.1 uF capacitor to AVSS."
part C pins: 1 CVDD18 (power) "Clock Supply Voltage (1.8 V).", 2 CVSS (power) "Clock Supply Common (0 V).", 5 CVSS (power) "Clock Supply Common (0 V).", 6 CVDD18 (power) "Clock Supply Voltage (1.8 V).", 7 DVSS (power) "Digital Supply Common (0 V).", 8 DVDD18 (power) "Digital Core Supply Voltage (1.8 V).", 27 DVDD33 (power) "Digital I/O Supply Voltage (3.3 V).", 28 DVSS (power) "Digital Supply Common (0 V).", 47 DVDD18 (power) "Digital Core Supply Voltage (1.8 V).", 48 DVSS (power) "Digital Supply Common (0 V).", 56 AVDD33 (power) "Analog Supply Voltage (3.3 V).", 57 AVDD33 (power) "Analog Supply Voltage (3.3 V).", 58 AVSS (power) "Analog Supply Common (0 V).", 61 AVSS (power) "Analog Supply Common (0 V).", 64 AVSS (power) "Analog Supply Common (0 V).", 67 AVSS (power) "Analog Supply Common (0 V).", 70 AVSS (power) "Analog Supply Common (0 V).", 71 AVDD33 (power) "Analog Supply Voltage (3.3 V).", 72 AVDD33 (power) "Analog Supply Voltage (3.3 V).", 73 EP (power) "Exposed Thermal Pad. Must be soldered to copper pour on top surface of PCB for mechanical stability and must be electrically tied to low impedance GND plane for low noise performance."

## AD9747BCPZ
designator U?
Dual 16-Bit Digital-to-Analog Converter, 250 Msps, -40 to +85 degC, CP-72-1, Pb-Free, Tray; Generic Part Number: AD9747; Manufacturer: Analog Devices; PartNumber: AD9747BCPZ; # DAC Outputs: 2; Max V+: 3.47V; Op Pwr Diss: 355mW; Resolution (Bits): 16; Single Supply: No; DatasheetVersion: Rev.0; PackageVersion: 06-07-2012-A; PackageReference: CP-72-1; PackageDescription: 72-Lead Lead Frame Chip Scale Package [LFCSP_VQ] 10 x 10 mm Body, Very Thin Quad; Supplier 1: Digi-Key; Supplier Part Number 1: AD9747BCPZ-ND; Supplier 2: Farnell; Supplier Part Number 2: 1438935; Supplier 3: Newark; Supplier Part Number 3: 15P1059; Supplier 4: Newark; Supplier Part Number 4: 46M5305; Supplier 5: Mouser; Supplier Part Number 5: 584-AD9747BCPZ; Packing: Tray; RoHS: Y; Mounting Technology: Surface Mount; Code_JEDEC: MO-220-VNND-4; ComponentLink1Description: Manufacturer URL; ComponentLink1URL: http://www.analog.com/en/index.html; ComponentLink2Description: Datasheet; ComponentLink2URL: http://www.analog.com/static/imported-files/data_sheets/AD9741_9743_9745_9746_9747.pdf; ComponentLink3Description: Package Specification; ComponentLink3URL: http://www.analog.com/static/imported-files/packages/CP_72_1.pdf; ComponentLink4Description: Product URL; ComponentLink4URL: http://www.analog.com/en/digital-to-analog-converters/da-converters/ad9747/products/product.html
footprint CP-72-1_N (QFN, 72-Leads, Body 10x10mm, Pitch 0.5mm, Thermal Pad 4.7x4.7mm, IPC Medium Density)
footprint CP-72-1_L (QFN, 72-Leads, Body 10x10mm, Pitch 0.5mm, Thermal Pad 4.7x4.7mm, IPC High Density)
footprint CP-72-1_M (QFN, 72-Leads, Body 10x10mm, Pitch 0.5mm, Thermal Pad 4.7x4.7mm, IPC Low Density)
part A pins: 9 P1D15 (in) "Port 1 Data Bit Input.", 10 P1D14 (in) "Port 1 Data Bit Input.", 11 P1D13 (in) "Port 1 Data Bit Input.", 12 P1D12 (in) "Port 1 Data Bit Input.", 13 P1D11 (in) "Port 1 Data Bit Input.", 14 P1D10 (in) "Port 1 Data Bit Input.", 15 P1D9 (in) "Port 1 Data Bit Input.", 16 P1D8 (in) "Port 1 Data Bit Input.", 17 P1D7 (in) "Port 1 Data Bit Input.", 18 P1D6 (in) "Port 1 Data Bit Input.", 19 P1D5 (in) "Port 1 Data Bit Input.", 20 P1D4 (in) "Port 1 Data Bit Input.", 21 P1D3 (in) "Port 1 Data Bit Input.", 22 P1D2 (in) "Port 1 Data Bit Input.", 23 P1D1 (in) "Port 1 Data Bit Input.", 24 P1D0 (in) "Port 1 Data Bit Input.", 31 P2D15 (in) "Port 2 Data Bit Input.", 32 P2D14 (in) "Port 2 Data Bit Input.", 33 P2D13 (in) "Port 2 Data Bit Input.", 34 P2D12 (in) "Port 2 Data Bit Input.", 35 P2D11 (in) "Port 2 Data Bit Input.", 36 P2D10 (in) "Port 2 Data Bit Input.", 37 P2D9 (in) "Port 2 Data Bit Input.", 38 P2D8 (in) "Port 2 Data Bit Input.", 39 P2D7 (in) "Port 2 Data Bit Input.", 40 P2D6 (in) "Port 2 Data Bit Input.", 41 P2D5 (in) "Port 2 Data Bit Input.", 42 P2D4 (in) "Port 2 Data Bit Input.", 43 P2D3 (in) "Port 2 Data Bit Input.", 44 P2D2 (in) "Port 2 Data Bit Input.", 45 P2D1 (in) "Port 2 Data Bit Input.", 46 P2D0 (in) "Port 2 Data Bit Input.", 59 IOUT2P (out) "DAC2 Current Output. Sources full-scale current when input data bits are all 1.", 60 IOUT2N (out) "Complementary DAC2 Current Output. Sources full-scale current when data bits are all 0.", 62 AUX2P (hiz) "Auxiliary DAC2 Default Current Output Pin.", 63 AUX2N (hiz) "Auxiliary DAC2 Optional Output Pin. Enable through SPI.", 65 AUX1N (hiz) "Auxiliary DAC1 Optional Output Pin. Enable through SPI.", 66 AUX1P (hiz) "Auxiliary DAC1 Default Current Output Pin.", 68 IOUT1N (out) "Complementary DAC1 Current Output. Sources full-scale current when data bits are all 0.", 69 IOUT1P (out) "DAC1 Current Output. Sources full-scale current when data bits are all 1."
part B pins: 3 CLKP (in) "Differential DAC Clock Input.", 4 CLKN (in) "Complementary Differential DAC Clock Input.", 25 DCO (out) "Data Clock Output. Use to clock data source.", 26 NC "No Connect.", 29 IQSEL (in) "I/Q Framing Signal for Single-Port Mode Operation.", 30 NC "No Connect.", 49 SDO (hiz) "Serial Peripheral Interface Data Output.", 50 SDIO (io) "Serial Peripheral Interface Data Input and Optional Data Output.", 51 SCLK (in) "Serial Peripheral Interface Clock Input.", 52 CSB (in) "Serial Peripheral Interface Chip Select Input. Active low.", 53 RESET (in) "Hardware Reset. Active high.", 54 FSADJ (in) "Full-Scale Current Output Adjust. Connect a 10 kohm resistor to AVSS.", 55 REFIO (io) "Reference Input/Output. Connect a 0.1 uF capacitor to AVSS."
part C pins: 1 CVDD18 (power) "Clock Supply Voltage (1.8 V).", 2 CVSS (power) "Clock Supply Common (0 V).", 5 CVSS (power) "Clock Supply Common (0 V).", 6 CVDD18 (power) "Clock Supply Voltage (1.8 V).", 7 DVSS (power) "Digital Supply Common (0 V).", 8 DVDD18 (power) "Digital Core Supply Voltage (1.8 V).", 27 DVDD33 (power) "Digital I/O Supply Voltage (3.3 V).", 28 DVSS (power) "Digital Supply Common (0 V).", 47 DVDD18 (power) "Digital Core Supply Voltage (1.8 V).", 48 DVSS (power) "Digital Supply Common (0 V).", 56 AVDD33 (power) "Analog Supply Voltage (3.3 V).", 57 AVDD33 (power) "Analog Supply Voltage (3.3 V).", 58 AVSS (power) "Analog Supply Common (0 V).", 61 AVSS (power) "Analog Supply Common (0 V).", 64 AVSS (power) "Analog Supply Common (0 V).", 67 AVSS (power) "Analog Supply Common (0 V).", 70 AVSS (power) "Analog Supply Common (0 V).", 71 AVDD33 (power) "Analog Supply Voltage (3.3 V).", 72 AVDD33 (power) "Analog Supply Voltage (3.3 V).", 73 EP (power) "Exposed Thermal Pad. Must be soldered to copper pour on top surface of PCB for mechanical stability and must be electrically tied to low impedance GND plane for low noise performance."

## AD9747BCPZRL
designator U?
Dual 16-Bit Digital-to-Analog Converter, 250 Msps, -40 to +85 degC, CP-72-1, Pb-Free, Reel; Generic Part Number: AD9747; Manufacturer: Analog Devices; PartNumber: AD9747BCPZRL; # DAC Outputs: 2; Max V+: 3.47V; Op Pwr Diss: 355mW; Resolution (Bits): 16; Single Supply: No; DatasheetVersion: Rev.0; PackageVersion: 06-07-2012-A; PackageReference: CP-72-1; PackageDescription: 72-Lead Lead Frame Chip Scale Package [LFCSP_VQ] 10 x 10 mm Body, Very Thin Quad; Supplier 1: Digi-Key; Supplier Part Number 1: AD9747BCPZRL-ND; Supplier 2: Mouser; Supplier Part Number 2: 584-AD9747BCPZR; Packing: Reel; RoHS: Y; Mounting Technology: Surface Mount; Code_JEDEC: MO-220-VNND-4; ComponentLink1Description: Manufacturer URL; ComponentLink1URL: http://www.analog.com/en/index.html; ComponentLink2Description: Datasheet; ComponentLink2URL: http://www.analog.com/static/imported-files/data_sheets/AD9741_9743_9745_9746_9747.pdf; ComponentLink3Description: Package Specification; ComponentLink3URL: http://www.analog.com/static/imported-files/packages/CP_72_1.pdf; ComponentLink4Description: Product URL; ComponentLink4URL: http://www.analog.com/en/digital-to-analog-converters/da-converters/ad9747/products/product.html
footprint CP-72-1_N (QFN, 72-Leads, Body 10x10mm, Pitch 0.5mm, Thermal Pad 4.7x4.7mm, IPC Medium Density)
footprint CP-72-1_L (QFN, 72-Leads, Body 10x10mm, Pitch 0.5mm, Thermal Pad 4.7x4.7mm, IPC High Density)
footprint CP-72-1_M (QFN, 72-Leads, Body 10x10mm, Pitch 0.5mm, Thermal Pad 4.7x4.7mm, IPC Low Density)
part A pins: 9 P1D15 (in) "Port 1 Data Bit Input.", 10 P1D14 (in) "Port 1 Data Bit Input.", 11 P1D13 (in) "Port 1 Data Bit Input.", 12 P1D12 (in) "Port 1 Data Bit Input.", 13 P1D11 (in) "Port 1 Data Bit Input.", 14 P1D10 (in) "Port 1 Data Bit Input.", 15 P1D9 (in) "Port 1 Data Bit Input.", 16 P1D8 (in) "Port 1 Data Bit Input.", 17 P1D7 (in) "Port 1 Data Bit Input.", 18 P1D6 (in) "Port 1 Data Bit Input.", 19 P1D5 (in) "Port 1 Data Bit Input.", 20 P1D4 (in) "Port 1 Data Bit Input.", 21 P1D3 (in) "Port 1 Data Bit Input.", 22 P1D2 (in) "Port 1 Data Bit Input.", 23 P1D1 (in) "Port 1 Data Bit Input.", 24 P1D0 (in) "Port 1 Data Bit Input.", 31 P2D15 (in) "Port 2 Data Bit Input.", 32 P2D14 (in) "Port 2 Data Bit Input.", 33 P2D13 (in) "Port 2 Data Bit Input.", 34 P2D12 (in) "Port 2 Data Bit Input.", 35 P2D11 (in) "Port 2 Data Bit Input.", 36 P2D10 (in) "Port 2 Data Bit Input.", 37 P2D9 (in) "Port 2 Data Bit Input.", 38 P2D8 (in) "Port 2 Data Bit Input.", 39 P2D7 (in) "Port 2 Data Bit Input.", 40 P2D6 (in) "Port 2 Data Bit Input.", 41 P2D5 (in) "Port 2 Data Bit Input.", 42 P2D4 (in) "Port 2 Data Bit Input.", 43 P2D3 (in) "Port 2 Data Bit Input.", 44 P2D2 (in) "Port 2 Data Bit Input.", 45 P2D1 (in) "Port 2 Data Bit Input.", 46 P2D0 (in) "Port 2 Data Bit Input.", 59 IOUT2P (out) "DAC2 Current Output. Sources full-scale current when input data bits are all 1.", 60 IOUT2N (out) "Complementary DAC2 Current Output. Sources full-scale current when data bits are all 0.", 62 AUX2P (hiz) "Auxiliary DAC2 Default Current Output Pin.", 63 AUX2N (hiz) "Auxiliary DAC2 Optional Output Pin. Enable through SPI.", 65 AUX1N (hiz) "Auxiliary DAC1 Optional Output Pin. Enable through SPI.", 66 AUX1P (hiz) "Auxiliary DAC1 Default Current Output Pin.", 68 IOUT1N (out) "Complementary DAC1 Current Output. Sources full-scale current when data bits are all 0.", 69 IOUT1P (out) "DAC1 Current Output. Sources full-scale current when data bits are all 1."
part B pins: 3 CLKP (in) "Differential DAC Clock Input.", 4 CLKN (in) "Complementary Differential DAC Clock Input.", 25 DCO (out) "Data Clock Output. Use to clock data source.", 26 NC "No Connect.", 29 IQSEL (in) "I/Q Framing Signal for Single-Port Mode Operation.", 30 NC "No Connect.", 49 SDO (hiz) "Serial Peripheral Interface Data Output.", 50 SDIO (io) "Serial Peripheral Interface Data Input and Optional Data Output.", 51 SCLK (in) "Serial Peripheral Interface Clock Input.", 52 CSB (in) "Serial Peripheral Interface Chip Select Input. Active low.", 53 RESET (in) "Hardware Reset. Active high.", 54 FSADJ (in) "Full-Scale Current Output Adjust. Connect a 10 kohm resistor to AVSS.", 55 REFIO (io) "Reference Input/Output. Connect a 0.1 uF capacitor to AVSS."
part C pins: 1 CVDD18 (power) "Clock Supply Voltage (1.8 V).", 2 CVSS (power) "Clock Supply Common (0 V).", 5 CVSS (power) "Clock Supply Common (0 V).", 6 CVDD18 (power) "Clock Supply Voltage (1.8 V).", 7 DVSS (power) "Digital Supply Common (0 V).", 8 DVDD18 (power) "Digital Core Supply Voltage (1.8 V).", 27 DVDD33 (power) "Digital I/O Supply Voltage (3.3 V).", 28 DVSS (power) "Digital Supply Common (0 V).", 47 DVDD18 (power) "Digital Core Supply Voltage (1.8 V).", 48 DVSS (power) "Digital Supply Common (0 V).", 56 AVDD33 (power) "Analog Supply Voltage (3.3 V).", 57 AVDD33 (power) "Analog Supply Voltage (3.3 V).", 58 AVSS (power) "Analog Supply Common (0 V).", 61 AVSS (power) "Analog Supply Common (0 V).", 64 AVSS (power) "Analog Supply Common (0 V).", 67 AVSS (power) "Analog Supply Common (0 V).", 70 AVSS (power) "Analog Supply Common (0 V).", 71 AVDD33 (power) "Analog Supply Voltage (3.3 V).", 72 AVDD33 (power) "Analog Supply Voltage (3.3 V).", 73 EP (power) "Exposed Thermal Pad. Must be soldered to copper pour on top surface of PCB for mechanical stability and must be electrically tied to low impedance GND plane for low noise performance."

## AD9748ACPZ
designator U?
Single 8-Bit TxDAC, 210 Msps, -40 to +85 degC, CP-32-2, Pb-Free, Tray; Generic Part Number: AD9748; Manufacturer: Analog Devices; PartNumber: AD9748ACPZ; # DAC Outputs: 1; Max V+: 3.6V; Op Pwr Diss: 145mW; Resolution (Bits): 8; Settling Time: 11ns; Single Supply: Yes; DatasheetVersion: Rev.A; PackageVersion: Jan-2005; PackageReference: CP-32-2; PackageDescription: 32-Lead Lead Frame Chip Scale Package [LFCSP_VQ] 5 x 5 mm Body, Very Thin Quad; Supplier 1: Digi-Key; Supplier Part Number 1: AD9748ACPZ-ND; Supplier 2: Farnell; Supplier Part Number 2: 2312747; Supplier 3: Newark; Supplier Part Number 3: 28M4201; Supplier 4: Mouser; Supplier Part Number 4: 584-AD9748ACPZ; Packing: Tray; RoHS: Y; Mounting Technology: Surface Mount; Code_JEDEC: MO-220-VHHD-2; ComponentLink1Description: Manufacturer URL; ComponentLink1URL: http://www.analog.com/en/index.html; ComponentLink2Description: Datasheet; ComponentLink2URL: http://www.analog.com/static/imported-files/data_sheets/AD9748.pdf; ComponentLink3Description: Package Specification; ComponentLink3URL: http://www.analog.com/static/imported-files/packages/414143737956480539664569CP_32_2.pdf; ComponentLink4Description: Product URL; ComponentLink4URL: http://www.analog.com/en/digital-to-analog-converters/da-converters/ad9748/products/product.html
footprint CP-32-2_N (QFN, 32-Leads, Body 5x5mm, Pitch 0.5mm, Thermal Pad 3.1x3.1mm, IPC Medium Density)
footprint CP-32-2_L (QFN, 32-Leads, Body 5x5mm, Pitch 0.5mm, Thermal Pad 3.1x3.1mm, IPC High Density)
footprint CP-32-2_M (QFN, 32-Leads, Body 5x5mm, Pitch 0.5mm, Thermal Pad 3.1x3.1mm, IPC Low Density)
pins: 1 DB1 (in) "Data Bit 1.", 2 DB0 (LSB) (in) "Least Significant Data Bit (LSB).", 3 DVDD (power) "Digital Supply Voltage (3.3 V).", 4 NC "No Internal Connection.", 5 NC "No Internal Connection.", 6 NC "No Internal Connection.", 7 NC "No Internal Connection.", 8 NC "No Internal Connection.", 9 NC "No Internal Connection.", 10 DCOM (power) "Digital Common.", 11 CLKVDD (power) "Clock Supply Voltage (3.3 V).", 12 CLK+ (in) "Differential Clock Input.", 13 CLK- (in) "Differential Clock Input.", 14 CLKCOM (power) "Clock Common.", 15 CMODE "Clock Mode Selection. Connect to CLKCOM for single-ended clock receiver (drive CLK+ and float CLK-). Connect to CLKVDD for differential receiver. Float for PECL receiver (terminations on-chip).", 16 MODE (in) "Selects Input Data Format. Connect to DCOM for straight binary, DVDD for twos complement.", 17 AVDD (power) "Analog Supply Voltage (3.3 V).", 18 AVDD (power) "Analog Supply Voltage (3.3 V).", 19 ACOM (power) "Analog Common.", 20 IOUTB "Complementary DAC Current Output. Full-scale current when all data bits are 0s.", 21 IOUTA (out) "DAC Current Output. Full-scale current when all data bits are 1s.", 22 ACOM (power) "Analog Common.", 23 REFIO (io) "Reference Input/Output. Requires 0.1 uF capacitor to ACOM.", 24 FS ADJ (in) "Full-Scale Current Output Adjust.", 25 SLEEP (in) "Power-Down Control Input. Active high. Contains active pull-down circuit; it can be left unterminated if not used.", 26 DCOM (power) "Digital Common.", 27 DB7 (MSB) (in) "Most Significant Data Bit (MSB).", 28 DB6 (in) "Data Bit 2.", 29 DB5 (in) "Data Bit 3.", 30 DB4 (in) "Data Bit 4.", 31 DB3 (in) "Data Bit 5.", 32 DB2 (in) "Data Bit 6.", 33 EP "Exposed Pad."